# EAGLE library part WE-LAN_10/100_BASETX_74901302X (library Wuerth_Elektronik_eiSos_ v6.1)
LAN-Transformer WE-LAN 10/100 Base Tx - Compliant with IEEE 802.3 standards - SMD -- Ethernet -- Power over Ethernet -- 1 Gigabit Ethernet -- Compliant with most IC's for ethernet applications like Intel, AMD, Globespan and Realtek -- Hub, Router, Switch
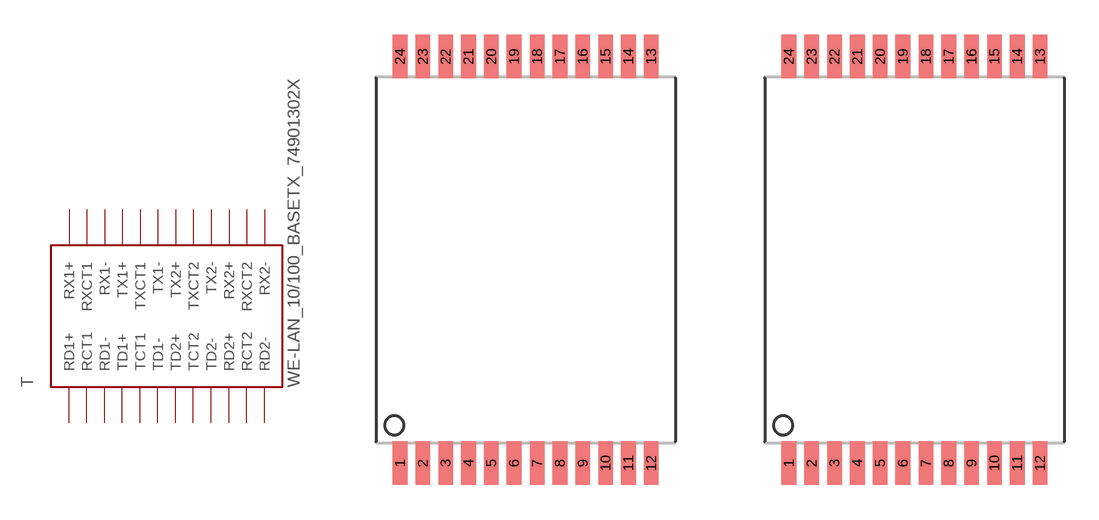
[diagram p26: symbol with the pads of WE-LAN_10/100_BASETX_749013022; footprints WE-LAN_10/100_BASETX_749013022, WE-LAN_10/100_BASETX_749013020]

Designator prefix T

## WE-LAN_10/100_BASETX_74901302X_749013022  [WE-LAN_10/100_BASETX_749013022]
1  RD1+  pas
2  RCT1  pas
3  RD1-  pas
4  TD1+  pas
5  TCT1  pas
6  TD1-  pas
7  TD2+  pas
8  TCT2  pas
9  TD2-  pas
10  RD2+  pas
11  RCT2  pas
12  RD2-  pas
13  RX1-  pas
14  RXCT2  pas
15  RX2+  pas
16  TX2-  pas
17  TXCT2  pas
18  TX2+  pas
19  TX1-  pas
20  TXCT1  pas
21  TX1+  pas
22  RX2-  pas
23  RXCT1  pas
24  RX1+  pas

## WE-LAN_10/100_BASETX_74901302X_749013020  [WE-LAN_10/100_BASETX_749013020]
1  RD1+  pas
2  RCT1  pas
3  RD1-  pas
4  TD1+  pas
5  TCT1  pas
6  TD1-  pas
7  TD2+  pas
8  TCT2  pas
9  TD2-  pas
10  RD2+  pas
11  RCT2  pas
12  RD2-  pas
13  RX2-  pas
14  RXCT2  pas
15  RX2+  pas
16  TX2-  pas
17  TXCT2  pas
18  TX2+  pas
19  TX1-  pas
20  TXCT1  pas
21  TX1+  pas
22  RX1-  pas
23  RXCT1  pas
24  RX1+  pas

## WE-LAN_10/100_BASETX_74901302X_749013021  [WE-LAN_10/100_BASETX_749013021]
Pads as for WE-LAN_10/100_BASETX_749013020

## Footprint WE-LAN_10/100_BASETX_749013022 (pad centres in mm)
WE-LAN 10/100 BaseTx
smd 0.64 x 1.905: 1 -5.45,-8.828; 2 -4.46,-8.828; 3 -3.47,-8.828; 4 -2.48,-8.828; 5 -1.49,-8.828; 6 -0.5,-8.828; 7 0.5,-8.828; 8 1.49,-8.828; 9 2.48,-8.828; 10 3.47,-8.828; 11 4.46,-8.828; 12 5.45,-8.828; 13 5.45,8.828; 14 4.46,8.828; 15 3.47,8.828; 16 2.48,8.828; 17 1.49,8.828; 18 0.5,8.828; 19 -0.5,8.828; 20 -1.49,8.828; 21 -2.48,8.828; 22 -3.47,8.828; 23 -4.46,8.828; 24 -5.45,8.828

## Footprint WE-LAN_10/100_BASETX_749013020 (pad centres in mm)
WE-LAN 10/100 BaseTx
smd 0.64 x 1.905: 1 -5.45,-8.828; 2 -4.46,-8.828; 3 -3.47,-8.828; 4 -2.48,-8.828; 5 -1.49,-8.828; 6 -0.5,-8.828; 7 0.5,-8.828; 8 1.49,-8.828; 9 2.48,-8.828; 10 3.47,-8.828; 11 4.46,-8.828; 12 5.45,-8.828; 13 5.45,8.828; 14 4.46,8.828; 15 3.47,8.828; 16 2.48,8.828; 17 1.49,8.828; 18 0.5,8.828; 19 -0.5,8.828; 20 -1.49,8.828; 21 -2.48,8.828; 22 -3.47,8.828; 23 -4.46,8.828; 24 -5.45,8.828

## Footprint WE-LAN_10/100_BASETX_749013021 (pad centres in mm)
WE-LAN 10/100 BaseTx
smd 0.64 x 1.65: 1 -5.59,-7.05; 2 -4.57,-7.05; 3 -3.55,-7.05; 4 -2.53,-7.05; 5 -1.51,-7.05; 6 -0.49,-7.05; 7 0.49,-7.05; 8 1.51,-7.05; 9 2.53,-7.05; 10 3.55,-7.05; 11 4.57,-7.05; 12 5.59,-7.05; 13 5.59,7.05; 14 4.57,7.05; 15 3.55,7.05; 16 2.53,7.05; 17 1.51,7.05; 18 0.49,7.05; 19 -0.49,7.05; 20 -1.51,7.05; 21 -2.53,7.05; 22 -3.55,7.05; 23 -4.57,7.05; 24 -5.59,7.05